# Altium footprint library FUSE-TH_L24.4-W9.4-P22.60.PcbLib: 1 footprints
Each footprint in its own frame and in the unit in brackets; x right, y up, seen from the top. Pads: shape width x height; smd on the part's side, far side on the other; paste and mask are expansions set on the pad; w line width, h text height; cw(c..) or ccw(c..) is an arc to the next point about the centre after c.
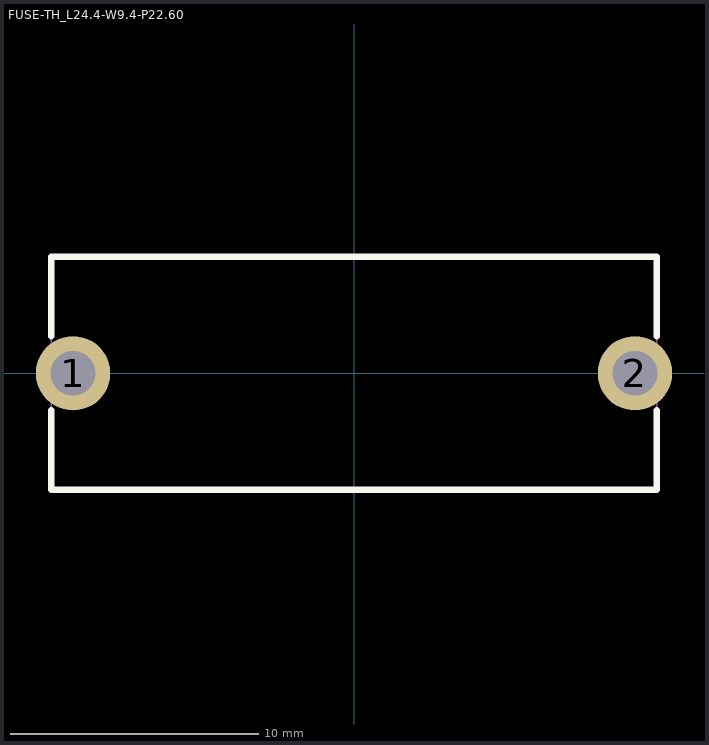
[diagram p0: the footprint, top view; thin cyan lines are the x and y axes]

## FUSE-TH_L24.4-W9.4-P22.60 [mm]
pads (2):
  round 3 hole 1.8: 1(-11.325,0) 2(11.325,0)
Top Overlay:
  lines w0.254: -12.2,-1.493 -12.2,-4.7 12.2,-4.7 12.2,-1.493 ; -12.2,1.493 -12.2,4.7 12.2,4.7 12.2,1.493
Mechanical 15:
  region: -11.575,-0.6 -11.575,0.6 -11.075,0.6 -11.075,-0.6
  region: 11.075,-0.6 11.075,0.6 11.575,0.6 11.575,-0.6
  region: -12.14,-4.7 -12.14,-4.725 -12.175,-4.76 -12.225,-4.76 -12.26,-4.725 -12.26,-4.7 -12.26,-4.675 -12.225,-4.64 -12.175,-4.64 -12.14,-4.675 -12.14,-4.7
  lines w0.051: -12.2,-4.7 -12.2,4.7 12.2,4.7 12.2,-4.7 -12.2,-4.7